# Altium schematic symbol library AMS1117-3.3.SchLib: 1 symbol
Pins are listed as number, name and electrical type; pins without a type are passive.

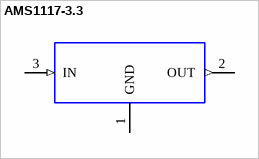
[diagram p0: symbol AMS1117-3.3]

## AMS1117-3.3
designator ?  (value not drawn)
Value: *
footprint SOT-223_AMS1117-3.3(Primary)
pins: 1 GND, 2 OUT (out), 3 IN (in)